# Altium footprint library relay.PCBLIB: 291 footprints (part 1 of 19)
Each footprint in its own frame and in the unit in brackets; x right, y up, seen from the top. Pads: shape width x height; smd on the part's side, far side on the other; paste and mask are expansions set on the pad; w line width, h text height; cw(c..) or ccw(c..) is an arc to the next point about the centre after c.
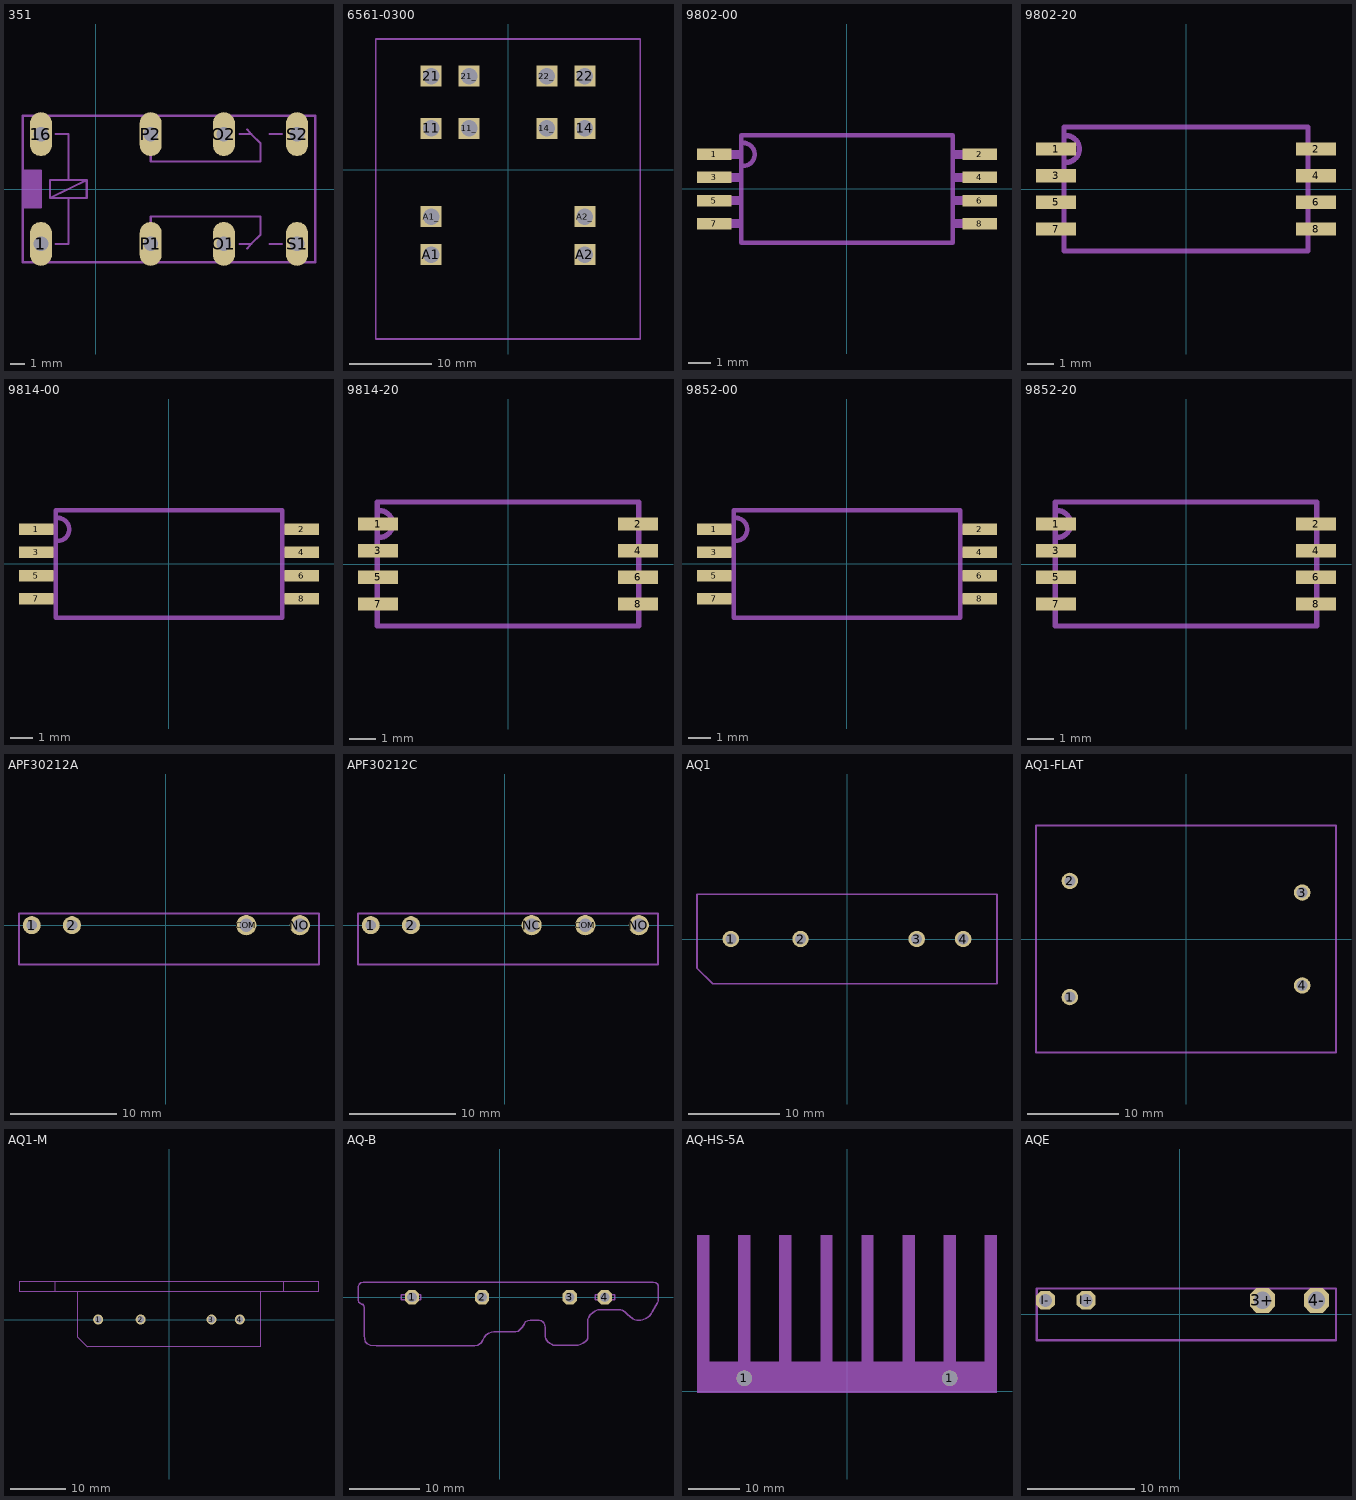
[diagram p0: the footprints below, top view; thin cyan lines are the x and y axes]

## 351 [mil]
pads (8):
  oval 60x120 hole 40: 1(-150,-150) 16(-150,150) O1(350,-150) O2(350,150) P1(150,-150) P2(150,150) S1(550,-150) S2(550,150)
Mechanical 2:
  rectangle: -200,-50 -150,50
  lines w6: -110,-150 -75,-150 -75,-25 ; -110,150 -75,150 -75,25 ; 150,-110 150,-75 450,-75 450,-125 425,-150 ; 150,110 150,75 450,75 450,125 425,150 ; 393,-150 425,-150 ; 393,150 425,150 ; 413,-163 425,-150 ; 413,163 425,150 ; 475,-150 508,-150 ; 475,150 508,150 ; -200,-50 -200,50 ; -200,-50 -150,-50 -150,50 -200,50 ; -200,-50 -200,-200 600,-200 600,200 -200,200 -200,50 ; -125,-25 -125,25 -75,25 ; -125,-25 -75,-25 ; -125,-25 -25,25 ; -75,-25 -25,-25 -25,25 ; -75,25 -25,25

## 6561-0300 [mm]
pads (12):
  rect 2.54x2.54 hole 2: 11(-9.3,5) 11_(-4.7,5) 14(9.3,5) 14_(4.7,5) 21(-9.3,11.3) 21_(-4.7,11.3) 22(9.3,11.3) 22_(4.7,11.3) A1(-9.3,-10.3) A1_(-9.3,-5.7) A2(9.3,-10.3) A2_(9.3,-5.7)
Mechanical 2:
  lines w0.203: -16,-20.5 -16,15.8 16,15.8 16,-20.5 -16,-20.5

## 9802-00 [mil]
pads (8):
  rect 60x20 smd: 1(-230,60) 2(230,60) 3(-230,20) 4(230,20) 5(-230,-20) 6(230,-20) 7(-230,-60) 8(230,-60)
Mechanical 2:
  lines w8: -180,40 ccw(c-180,60) -180,80 ; -183,-93 183,-93 183,93 -183,93 -183,-93
Mechanical 18:
  rectangle: -255,52 -185,68
  rectangle: -255,12 -185,28
  rectangle: -255,-28 -185,-12
  rectangle: -255,-68 -185,-52
  region: 255,-52 185,-52 185,-68 255,-68
  region: 255,-12 185,-12 185,-28 255,-28
  region: 255,28 185,28 185,12 255,12
  region: 255,68 185,68 185,52 255,52

## 9802-20 [mil]
pads (8):
  rect 60x20 smd: 1(-195,60) 2(195,60) 3(-195,20) 4(195,20) 5(-195,-20) 6(195,-20) 7(-195,-60) 8(195,-60)
Mechanical 2:
  lines w8: -183,-93 183,-93 ; -183,93 183,93
Mechanical 18:
  rectangle: -220,52 -186,68
  rectangle: -220,12 -186,28
  rectangle: -220,-28 -186,-12
  rectangle: -220,-68 -186,-52
  region: 220,-52 186,-52 186,-68 220,-68
  region: 220,-12 186,-12 186,-28 220,-28
  region: 220,28 186,28 186,12 220,12
  region: 220,68 186,68 186,52 220,52
  lines w8: -183,-93 -183,93 ; -180,40 ccw(c-180,60) -180,80 ; 183,-93 183,93

## 9814-00 [mil]
pads (8):
  rect 60x20 smd: 1(-230,60) 2(230,60) 3(-230,20) 4(230,20) 5(-230,-20) 6(230,-20) 7(-230,-60) 8(230,-60)
Mechanical 2:
  lines w8: -196,-93 196,-93 ; -196,93 196,93 ; -193,40 ccw(c-193,60) -193,80
Mechanical 18:
  rectangle: -255,52 -200,68
  rectangle: -255,12 -200,28
  rectangle: -255,-28 -200,-12
  rectangle: -255,-68 -200,-52
  region: 255,-52 200,-52 200,-68 255,-68
  region: 255,-12 200,-12 200,-28 255,-28
  region: 255,28 200,28 200,12 255,12
  region: 255,68 200,68 200,52 255,52
  lines w8: -196,-93 -196,93 ; 196,-93 196,93

## 9814-20 [mil]
pads (8):
  rect 60x20 smd: 1(-195,60) 2(195,60) 3(-195,20) 4(195,20) 5(-195,-20) 6(195,-20) 7(-195,-60) 8(195,-60)
Mechanical 2:
  lines w8: -196,-93 196,-93 ; -196,93 196,93
Mechanical 18:
  rectangle: -220,52 -186,68
  rectangle: -220,12 -186,28
  rectangle: -220,-28 -186,-12
  rectangle: -220,-68 -186,-52
  region: 220,-52 186,-52 186,-68 220,-68
  region: 220,-12 186,-12 186,-28 220,-28
  region: 220,28 186,28 186,12 220,12
  region: 220,68 186,68 186,52 220,52
  lines w8: -196,-93 -196,93 ; -193,40 ccw(c-193,60) -193,80 ; 196,-93 196,93

## 9852-00 [mil]
pads (8):
  rect 60x20 smd: 1(-230,60) 2(230,60) 3(-230,20) 4(230,20) 5(-230,-20) 6(230,-20) 7(-230,-60) 8(230,-60)
Mechanical 2:
  lines w8: -196,-93 196,-93 ; -196,93 196,93 ; -193,40 ccw(c-193,60) -193,80
Mechanical 18:
  rectangle: -255,52 -200,68
  rectangle: -255,12 -200,28
  rectangle: -255,-28 -200,-12
  rectangle: -255,-68 -200,-52
  region: 255,-52 200,-52 200,-68 255,-68
  region: 255,-12 200,-12 200,-28 255,-28
  region: 255,28 200,28 200,12 255,12
  region: 255,68 200,68 200,52 255,52
  lines w8: -196,-93 -196,93 ; 196,-93 196,93

## 9852-20 [mil]
pads (8):
  rect 60x20 smd: 1(-195,60) 2(195,60) 3(-195,20) 4(195,20) 5(-195,-20) 6(195,-20) 7(-195,-60) 8(195,-60)
Mechanical 2:
  lines w8: -196,-93 196,-93 ; -196,93 196,93
Mechanical 18:
  rectangle: -220,52 -197.83,68
  rectangle: -220,12 -197.83,28
  rectangle: -220,-28 -196.85,-12
  rectangle: -220,-68 -196.85,-52
  region: 220,-52 196.85,-52 196.85,-68 220,-68
  region: 220,-12 196.85,-12 196.85,-28 220,-28
  region: 220,28 197.83,28 197.83,12 220,12
  region: 220,68 197.83,68 197.83,52 220,52
  lines w8: -196,-93 -196,93 ; -193,40 ccw(c-193,60) -193,80 ; 196,-93 196,93

## APF30212A [mm]
pads (4):
  round 1.7 hole 1: 1(-12.6,0) 2(-8.82,0)
  round 1.9 hole 1.3: COM(7.56,0) NO(12.6,0)
Mechanical 2:
  lines w0.203: -13.8,-3.7 14.4,-3.7 14.4,1.1 -13.8,1.1 -13.8,-3.7

## APF30212C [mm]
pads (5):
  round 1.7 hole 1: 1(-12.6,0) 2(-8.82,0)
  round 1.9 hole 1.3: COM(7.56,0) NC(2.52,0) NO(12.6,0)
Mechanical 2:
  lines w0.203: -13.8,-3.7 14.4,-3.7 14.4,1.1 -13.8,1.1 -13.8,-3.7

## AQ1 [mil]
pads (4):
  round 70.86 hole 47.24: 1(-500,0) 2(-200,0) 3(300,0) 4(500,0)
Mechanical 2:
  lines w8: -645.67,-125.98 -645.67,192.91 645.67,192.91 645.67,-192.91 -578.74,-192.91 -645.67,-125.98

## AQ1-FLAT [mil]
pads (4):
  round 70.86 hole 47.24: 1(-500,-250) 2(-500,250) 3(500,200) 4(500,-200)
Mechanical 2:
  lines w8: -645.67,-488.19 645.67,-488.19 645.67,488.19 -645.67,488.19 -645.67,-488.19

## AQ1-M [mil]
pads (4):
  round 70.86 hole 47.24: 1(-500,0) 2(-200,0) 3(300,0) 4(500,0)
Mechanical 2:
  lines w4: -805.12,204.72 -805.12,267.72 ; 805.12,204.72 805.12,267.72
  lines w8: -645.67,196.85 -645.67,-125.98 -578.74,-192.91 645.67,-192.91 645.67,196.85 ; -1059.06,200.79 -1059.06,271.65 1059.06,271.65 1059.06,200.79 -1059.06,200.79

## AQ-B [mm]
pads (4):
  oct 2.033x2.033 hole 1.4: 1(-12.54,0) 2(-2.54,0) 3(9.96,0) 4(14.96,0)
Mechanical 2:
  lines w0.203: -20.251,-0.465 -20.251,1.534 -20.065,1.859 -19.833,2.045 -19.507,2.138 21.912,2.138 22.237,2.092 22.423,1.906 22.562,1.674 22.562,-0.604 22.469,-0.837 22.237,-1.209 21.772,-2.092 21.633,-2.371 21.307,-2.696 20.889,-2.975 20.378,-3.208 20.099,-3.254 19.541,-3.254 19.262,-3.208 18.936,-3.068 18.193,-2.464 17.821,-2.092 17.496,-1.86 17.217,-1.767 14.195,-1.813 13.962,-1.813 13.544,-1.999 13.265,-2.185 12.893,-2.51 12.661,-2.882 12.568,-3.115 12.568,-5.578 12.521,-5.904 12.382,-6.136 12.15,-6.369 11.824,-6.601 11.545,-6.74 11.173,-6.834 7.64,-6.834 7.408,-6.74 7.083,-6.554 6.85,-6.322 6.571,-5.95 6.478,-5.625 6.478,-4.37 6.432,-3.951 6.292,-3.672 6.106,-3.486 5.874,-3.347 5.595,-3.3 4.34,-3.3 3.968,-3.347 3.643,-3.533 3.457,-3.859 3.178,-4.277 2.899,-4.602 2.62,-4.835 2.294,-4.928 -0.913,-4.928 -1.239,-4.974 -1.61,-5.114 -1.936,-5.346 -2.215,-5.718 -2.447,-6.136 -2.679,-6.508 -2.912,-6.74 -3.191,-6.88 -3.609,-6.926 -17.648,-6.926 -18.485,-6.834 -18.903,-6.647 -19.182,-6.322 -19.322,-5.904 -19.368,-5.532 -19.368,-1.348 -19.414,-1.209 -19.554,-1.023 -19.693,-0.976 -19.926,-0.883 -20.112,-0.697 -20.251,-0.465
Mechanical 18:
  lines w0.203: -14.069,-0.325 -14.069,0.325 -11.326,0.325 -11.326,-0.325 -14.069,-0.325 ; -3.144,-0.325 -3.144,0.325 -1.936,0.325 -1.936,-0.325 -3.144,-0.325 ; 9.407,-0.325 9.407,0.325 10.615,0.325 10.615,-0.325 9.407,-0.325 ; 13.591,-0.325 13.591,0.325 16.38,0.325 16.38,-0.325 13.591,-0.325

## AQ-HS-5A [mm]
pads (2):
  round 3 hole 3: 1(-20,2.5) 1(20,2.5)
Mechanical 2:
  lines w0.102: -25.3,0 -25.3,4.8 ; -22.3,0 -22.3,4.8 ; 22.3,0 22.3,4.8 ; 25.3,0 25.3,4.8
  lines w0.203: -28.9,0.1 -28.9,6 -28.65,29.25 cw(c-28,29.243) -27.35,29.25 -27.1,6 ccw(c-26.088,6.011) -26.05,5 -21.95,5 ccw(c-21.911,6.011) -20.9,6 -20.65,29.25 cw(c-20,29.243) -19.35,29.25 -19.1,6 ccw(c-18.088,6.011) -18.05,5 -13.95,5 ccw(c-13.911,6.011) -12.9,6 -12.65,29.25 cw(c-12,29.243) -11.35,29.25 -11.1,6 ccw(c-10.088,6.011) -10.05,5 -5.95,5 ccw(c-5.912,6.011) -4.9,6 -4.65,29.25 cw(c-4,29.243) -3.35,29.25 -3.1,6 ccw(c-2.088,6.011) -2.05,5 2.05,5 ccw(c2.088,6.011) 3.1,6 3.35,29.25 cw(c4,29.243) 4.65,29.25 4.9,6 ccw(c5.912,6.011) 5.95,5 10.05,5 ccw(c10.088,6.011) 11.1,6 11.35,29.25 cw(c12,29.243) 12.65,29.25 12.9,6 ccw(c13.911,6.011) 13.95,5 18.05,5 ccw(c18.088,6.011) 19.1,6 19.35,29.25 cw(c20,29.243) 20.65,29.25 20.9,6 ccw(c21.911,6.011) 21.95,5 26.05,5 ccw(c26.088,6.011) 27.1,6 27.35,29.25 cw(c28,29.243) 28.65,29.25 28.9,6 28.9,0.1 -28.9,0.1
Mechanical 12:
  rectangle: -29.2,-0.4 -26.8,30.4
  rectangle: -21.2,0 -18.8,30.4
  rectangle: -13.2,0 -10.8,30.4
  rectangle: -5.2,0 -2.8,30.4
  rectangle: 2.8,0 5.2,30.4
  rectangle: 10.8,0 13.2,30.4
  rectangle: 18.8,0 21.2,30.4
  rectangle: 26.8,0 29.2,30.4
  rectangle: -29.2,-0.4 29.2,5.8

## AQE [mil]
pads (4):
  oct 91.48x91.48 hole 62.99: 3+(301.57,50) 4-(500,50)
  oct 68.61x68.61 hole 47.24: I+(-343.31,50) I-(-492.13,50)
Mechanical 2:
  lines w8: -523.62,8.66 -523.62,-95.67 570.87,-95.67 570.87,93.31 550,93.31 ; -450,93.31 -400,93.31 ; -300,93.31 250,93.31 ; 350,93.31 450,93.31
Mechanical 18:
  lines w8: -523.62,8.66 -523.62,93.31 -450,93.31 ; -400,93.31 -300,93.31 ; 250,93.31 350,93.31 ; 450,93.31 550,93.31